# EAGLE library part GENERIC_TRANSFORMER_2_X_SEC (library Labops_Lib_AH)
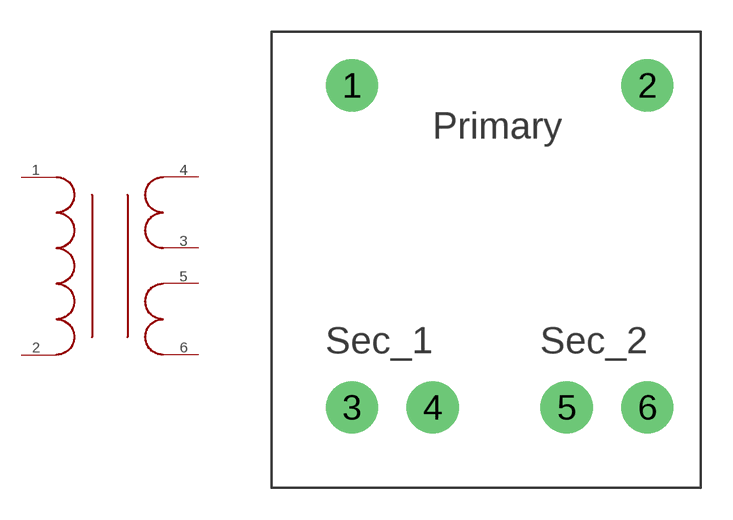
[diagram p65: symbol with the pads of GENERIC_TRANSFORMER_2_X_SEC; footprint GENERIC_TRANSFORMER_2_X_SEC]

Designator prefix -

## GENERIC_TRANSFORMER_2_X_SEC  [GENERIC_TRANSFORMER_2_X_SEC]
1  1  pas
2  2  pas
3  3  pas
4  4  pas
5  5  pas
6  6  pas

## Footprint GENERIC_TRANSFORMER_2_X_SEC (pad centres in mm)
drill 1.651 pad 2.159: 1 -7.62,8.89; 2 6.35,8.89; 3 -7.62,-6.35; 4 -3.81,-6.35; 5 2.54,-6.35; 6 6.35,-6.35